# EAGLE library part ATMEGA32U4-QFN-CUSTOM (library charlespax)
Atmel 44-pin 8-bit Microcontroller with 32KBytes of ISP Flash and USB Controller ----- Please use the QFN-44-NOPAD_1:1 package for the footprint of all boards using a 32U4. Route traces directly away from the pads as much as possible.
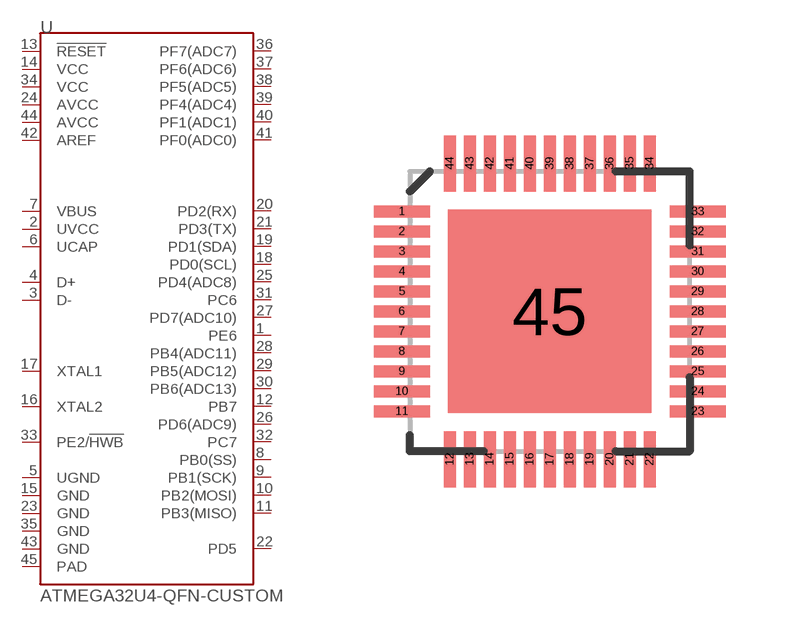
[diagram p4: symbol with the pads of SPARKFUN-DIGITALIC_QFN-44; footprint SPARKFUN-DIGITALIC_QFN-44]

Designator prefix -

## ATMEGA32U4-QFN-CUSTOMQFN  [SPARKFUN-DIGITALIC_QFN-44]
1  PE6
2  UVCC
3  D-
4  D+
5  UGND
6  UCAP
7  VBUS
8  PB0(SS)
9  PB1(SCK)
10  PB2(MOSI)
11  PB3(MISO)
12  PB7
13  !RESET
14  VCC
15  GND
16  XTAL2
17  XTAL1
18  PD0(SCL)
19  PD1(SDA)
20  PD2(RX)
21  PD3(TX)
22  PD5
23  GND
24  AVCC
25  PD4(ADC8)
26  PD6(ADC9)
27  PD7(ADC10)
28  PB4(ADC11)
29  PB5(ADC12)
30  PB6(ADC13)
31  PC6
32  PC7
33  PE2/!HWB
34  VCC
35  GND
36  PF7(ADC7)
37  PF6(ADC6)
38  PF5(ADC5)
39  PF4(ADC4)
40  PF1(ADC1)
41  PF0(ADC0)
42  AREF
43  GND
44  AVCC
45  PAD

## Footprint SPARKFUN-DIGITALIC_QFN-44 (pad centres in mm)
smd 1.4 x 0.3: 1 -3.7,2.5; 2 -3.7,2; 3 -3.7,1.5; 4 -3.7,1; 5 -3.7,0.5; 6 -3.7,0; 7 -3.7,-0.5; 8 -3.7,-1; 9 -3.7,-1.5; 10 -3.7,-2; 11 -3.7,-2.5; 23 3.7,-2.5; 24 3.7,-2; 25 3.7,-1.5; 26 3.7,-1; 27 3.7,-0.5; 28 3.7,0; 29 3.7,0.5; 30 3.7,1; 31 3.7,1.5; 32 3.7,2; 33 3.7,2.5
smd 0.3 x 1.4: 12 -2.5,-3.7; 13 -2,-3.7; 14 -1.5,-3.7; 15 -1,-3.7; 16 -0.5,-3.7; 17 0,-3.7; 18 0.5,-3.7; 19 1,-3.7; 20 1.5,-3.7; 21 2,-3.7; 22 2.5,-3.7; 34 2.5,3.7; 35 2,3.7; 36 1.5,3.7; 37 1,3.7; 38 0.5,3.7; 39 0,3.7; 40 -0.5,3.7; 41 -1,3.7; 42 -1.5,3.7; 43 -2,3.7; 44 -2.5,3.7
smd 5.08 x 5.08: 45 0,0